# EAGLE library part OPT3004DNPR (library chips)
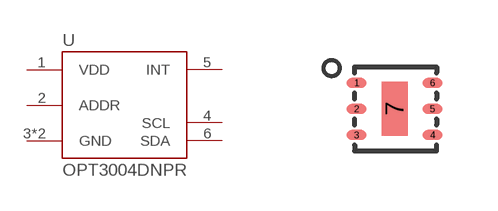
[diagram p107: symbol with the pads of DNP0006A; footprint DNP0006A]

Designator prefix U

## OPT3004DNPR (DIGIKEY: 296-53402-1-ND; MANUFACTURER: Texas Instruments; MPN: OPT3004DNPR)  [DNP0006A]
1  VDD  pwr
2  ADDR  in
3  GND  pwr
4  SCL  in
5  INT  out
6  SDA  in
7  GND  pwr

## Footprint DNP0006A (pad centres in mm)
smd 0.5 x 0.25: 1 -0.95,0.65; 2 -0.95,0; 3 -0.95,-0.655; 4 0.95,-0.65; 5 0.95,0; 6 0.95,0.65
smd 0.65 x 1.35: 7 0,0